# Altium schematic symbol library Devices_Matiushok.SchLib: 5 symbols
Pins are listed as number, name and electrical type; pins without a type are passive.

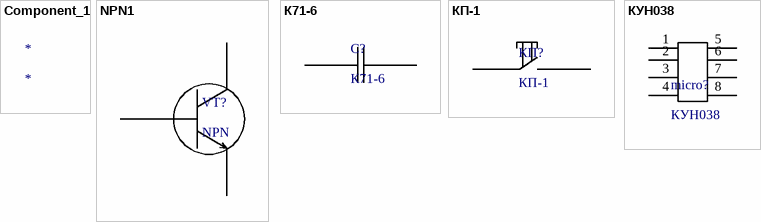
[diagram p0: symbols Component_1 to КУН038]

## Component_1
designator *

## NPN1
designator VT?, comment NPN
Transistor NPN Generic
pins: 1, 2, 3

## К71-6
designator C?
Конденсатор
pins: 1 "Supply_pin", 2 "Supply_pin"

## КП-1
designator КП?
Коммутатор
pins: 1 "Supply_pin", 2 "Supply_pin"

## КУН038
designator micro?
pins: 1 "Supply_pin", 2 "Supply_pin", 3 "Supply_pin", 4 "Supply_pin", 5 "Supply_pin", 6 "Supply_pin", 7 "Supply_pin", 8 "Supply_pin"